# Altium footprint library Resistors.PcbLib: 12 footprints
Each footprint in its own frame and in the unit in brackets; x right, y up, seen from the top. Pads: shape width x height; smd on the part's side, far side on the other; paste and mask are expansions set on the pad; w line width, h text height; cw(c..) or ccw(c..) is an arc to the next point about the centre after c.
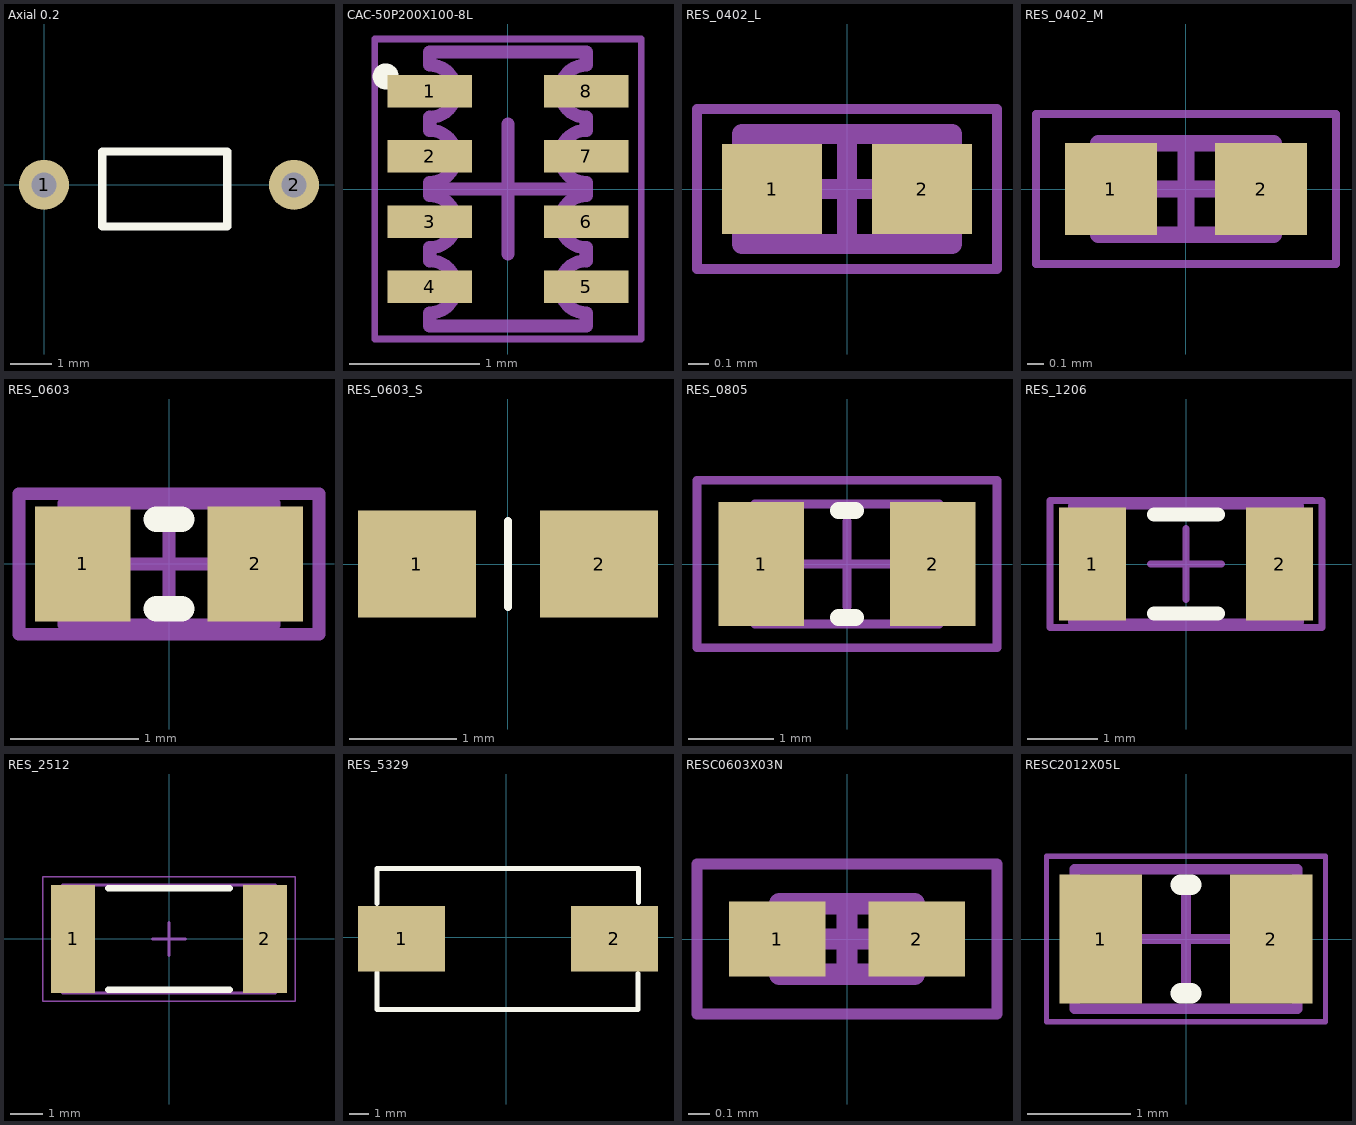
[diagram p0: the footprints below, top view; thin cyan lines are the x and y axes]

## Axial 0.2 [mm]
pads (2):
  round 1.2 hole 0.6: 1(0,0) 2(6,0)
Top Overlay:
  lines w0.2: 1.4,-1 1.4,0.8 4.4,0.8 4.4,-1 1.4,-1

## CAC-50P200X100-8L [mm] "Chip Array, Concave, 8-Leads, Pitch 0.50mm,  Body 2.00x1.00mm,  IPC High Density"
height 0.55
pads (8):
  rect 0.65x0.25 smd: 1(-0.6,0.75) 2(-0.6,0.25) 3(-0.6,-0.25) 4(-0.6,-0.75) 5(0.6,-0.75) 6(0.6,-0.25) 7(0.6,0.25) 8(0.6,0.75)
Top Overlay:
  circle w0.1: c-0.937,0.863 r0.05
Mechanical 13:
  lines w0.1: -0.6,-1.05 0.6,-1.05 0.6,-0.95 cw(c0.6,-0.75) 0.6,-0.55 0.6,-0.45 cw(c0.6,-0.25) 0.6,-0.05 0.6,0.05 cw(c0.6,0.25) 0.6,0.45 0.6,0.55 cw(c0.6,0.75) 0.6,0.95 0.6,1.05 -0.6,1.05 -0.6,0.95 cw(c-0.6,0.75) -0.6,0.55 -0.6,0.45 cw(c-0.6,0.25) -0.6,0.05 -0.6,-0.05 cw(c-0.6,-0.25) -0.6,-0.45 -0.6,-0.55 cw(c-0.6,-0.75) -0.6,-0.95 -0.6,-1.05
Mechanical 15:
  lines w0.05: -1.02,-1.15 1.02,-1.15 1.02,1.15 -1.02,1.15 -1.02,-1.15
  lines w0.1: -0.5,0 0.5,0 ; 0,-0.5 0,0.5
3D body "CAC-50P200X100-8L.step": height 0.55, standoff 0, extent -0.6,-1.05 0.6,1.05

## RES_0402_L [mm] "Chip Resistor, 2-Leads, Body 1.00x0.50mm, IPC High Density"
height 0.45
pads (2):
  rect 0.5x0.45 smd: 1(-0.375,0) 2(0.375,0)
Mechanical 13:
  lines w0.1: -0.525,-0.275 -0.525,0.275 0.525,0.275 0.525,-0.275 -0.525,-0.275
Mechanical 15:
  lines w0.05: -0.75,-0.4 -0.75,0.4 0.75,0.4 0.75,-0.4 -0.75,-0.4
  lines w0.1: -0.275,0 0.275,0 ; 0,-0.275 0,0.275
3D body "RESC1005X05L.step": height 0.45, standoff 0, extent -0.525,-0.275 0.525,0.275

## RES_0402_M [mm] "Chip Resistor, 2-Leads, Body 1.00x0.50mm, IPC Medium Density"
height 0.4
pads (2):
  rect 0.55x0.55 smd: 1(-0.45,0) 2(0.45,0)
Mechanical 13:
  lines w0.1: -0.525,-0.275 -0.525,0.275 0.525,0.275 0.525,-0.275 -0.525,-0.275
Mechanical 15:
  lines w0.05: -0.9,-0.45 -0.9,0.45 0.9,0.45 0.9,-0.45 -0.9,-0.45
  lines w0.1: -0.275,0 0.275,0 ; 0,-0.275 0,0.275
3D body "User Library-0402R.STEP": height 0.34, standoff 0, extent -0.52,-0.3 0.52,0.3

## RES_0603 [mm] "Chip Resistor, 2-Leads, Body 1,6x0,8mm, IPC High Density"
height 0.48
pads (2):
  rect 0.75x0.9 smd: 1(-0.675,0) 2(0.675,0)
Top Overlay:
  lines w0.2: -0.1,-0.35 0.1,-0.35 ; -0.1,0.35 0.1,0.35
Mechanical 13:
  lines w0.1: -0.825,-0.475 -0.825,0.475 0.825,0.475 0.825,-0.475 -0.825,-0.475
Mechanical 15:
  lines w0.1: -0.475,0 0.475,0 ; 0,-0.475 0,0.475 ; -1.175,-0.55 -1.175,0.55 1.175,0.55 1.175,-0.55 -1.175,-0.55
3D body "User Library-RESC1608X05N.STEP": height 0.45, standoff 0, extent -0.825,-0.475 0.725,0.375

## RES_0603_S [mm] "Chip Resistor,  Body  1.6mm(L) x 0.80mm(W) x 0.45mm(H)"
height 0.457
pads (2):
  rect 1.1x1 smd: 1(-0.85,0) 2(0.85,0)
Top Overlay:
  lines w0.076: 0,-0.4 0,0.4
3D body "User Library-Panasonic0603.step": height 0.45, standoff 0, extent -0.8,-0.41 0.8,0.41

## RES_0805 [mm] "Chip Resistor 2-Leads, Body 2,0x1,3mm, IPC Medium Density"
height 0.6
pads (2):
  rect 1x1.45 smd: 1(-1,0) 2(1,0)
Top Overlay:
  lines w0.2: -0.1,-0.625 0.1,-0.625 ; -0.1,0.625 0.1,0.625
Mechanical 13:
  lines w0.1: -1.075,-0.7 -1.075,0.7 1.075,0.7 1.075,-0.7 -1.075,-0.7
Mechanical 15:
  lines w0.1: -0.5,0 0.5,0 ; 0,-0.5 0,0.5 ; -1.75,-0.975 -1.75,0.975 1.75,0.975 1.75,-0.975 -1.75,-0.975
3D body "User Library-R_0805.STEP": height 0.5, standoff 0, extent -1,-0.635 1,0.615

## RES_1206 [mm] "Chip Resistor 2-Leads, Body 3,1x1,6mm, IPC High Density"
height 0.7
pads (2):
  rect 0.95x1.6 smd: 1(-1.325,0) 2(1.325,0)
Top Overlay:
  lines w0.2: -0.45,-0.7 0.45,-0.7 ; -0.45,0.7 0.45,0.7
Mechanical 13:
  lines w0.1: -1.625,-0.825 -1.625,0.825 1.625,0.825 1.625,-0.825 -1.625,-0.825
Mechanical 15:
  lines w0.1: -0.5,0 0.5,0 ; 0,-0.5 0,0.5 ; -1.925,-0.9 -1.925,0.9 1.925,0.9 1.925,-0.9 -1.925,-0.9
3D body "SW3dPS-1206 SMD Resistor.STEP": height 1, standoff 0, extent -1.592,-0.762 1.608,0.838

## RES_2512 [mm]
height 0.8
pads (2):
  rect 1.35x3.3 smd: 1(-2.925,0) 2(2.925,0)
Top Overlay:
  lines w0.2: -1.85,-1.55 1.85,-1.55 ; -1.85,1.55 1.85,1.55
Mechanical 13:
  lines w0.1: -3.25,-1.65 -3.25,1.65 3.25,1.65 3.25,-1.65 -3.25,-1.65
Mechanical 15:
  lines w0.05: -3.85,-1.9 -3.85,1.9 3.85,1.9 3.85,-1.9 -3.85,-1.9
  lines w0.1: -0.5,0 0.5,0 ; 0,-0.5 0,0.5
3D body "RES_2512.step": height 0.8, standoff 0, extent -3.25,-1.65 3.25,1.65

## RES_5329 [mm] "Chip resistor, J-Lead Flame Retardant Coating, Safety, Wirewound"
height 7.1
pads (2):
  rect 4.5x3.4 smd: 1(-5.418,-0.086) 2(5.58,-0.086)
Top Overlay:
  lines w0.254: -6.688,-1.838 -6.688,-3.743 6.8,-3.743 6.8,-1.889 ; -6.688,1.743 -6.688,3.547 6.825,3.547 6.825,1.794
3D body: height 7.11, standoff 0, extent -6.662,-3.718 6.825,3.547

## RESC0603X03N [mm] "Chip Resistor, 2-Leads, Body 0.60x0.30mm, IPC Medium Density"
height 0.33
pads (2):
  rect 0.45x0.35 smd: 1(-0.325,0) 2(0.325,0)
Mechanical 13:
  lines w0.1: -0.315,-0.165 0.315,-0.165 0.315,0.165 -0.315,0.165 -0.315,-0.165
Mechanical 15:
  lines w0.05: -0.7,-0.35 0.7,-0.35 0.7,0.35 -0.7,0.35 -0.7,-0.35
  lines w0.1: -0.165,0 0.165,0 ; 0,-0.165 0,0.165
3D body "RESC0603X03N.step": height 0.33, standoff 0, extent -0.315,-0.165 0.315,0.165

## RESC2012X05L [mm] "Chip Resistor, 2-Leads, Body 2.00x1.20mm, IPC High Density"
height 0.45
pads (2):
  rect 0.8x1.25 smd: 1(-0.825,0) 2(0.825,0)
Top Overlay:
  lines w0.2: -0.05,-0.525 0.05,-0.525 ; -0.05,0.525 0.05,0.525
Mechanical 13:
  lines w0.1: -1.075,-0.675 1.075,-0.675 1.075,0.675 -1.075,0.675 -1.075,-0.675
Mechanical 15:
  lines w0.05: -1.35,-0.8 1.35,-0.8 1.35,0.8 -1.35,0.8 -1.35,-0.8
  lines w0.1: -0.5,0 0.5,0 ; 0,-0.5 0,0.5
3D body "User Library-R_0805.STEP": height 0.5, standoff 0, extent -1,-0.635 1,0.615